# Altium schematic symbol library chs-02ta.SchLib: 1 symbol
Pins are listed as number, name and electrical type; pins without a type are passive.

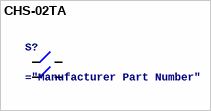
[diagram p0: symbol CHS-02TA]

## CHS-02TA
designator S?
DIP Switch, Slide, SPST, Flush, Recessed, 6VDC, 100mA, CHS Series | Nidec Components CHS-02TA
pins: 1, 2, 3, 4